# Altium footprint library MWKbasic1.PcbLib: 42 footprints (part 2 of 3)
Each footprint in its own frame and in the unit in brackets; x right, y up, seen from the top. Pads: shape width x height; smd on the part's side, far side on the other; paste and mask are expansions set on the pad; w line width, h text height; cw(c..) or ccw(c..) is an arc to the next point about the centre after c.
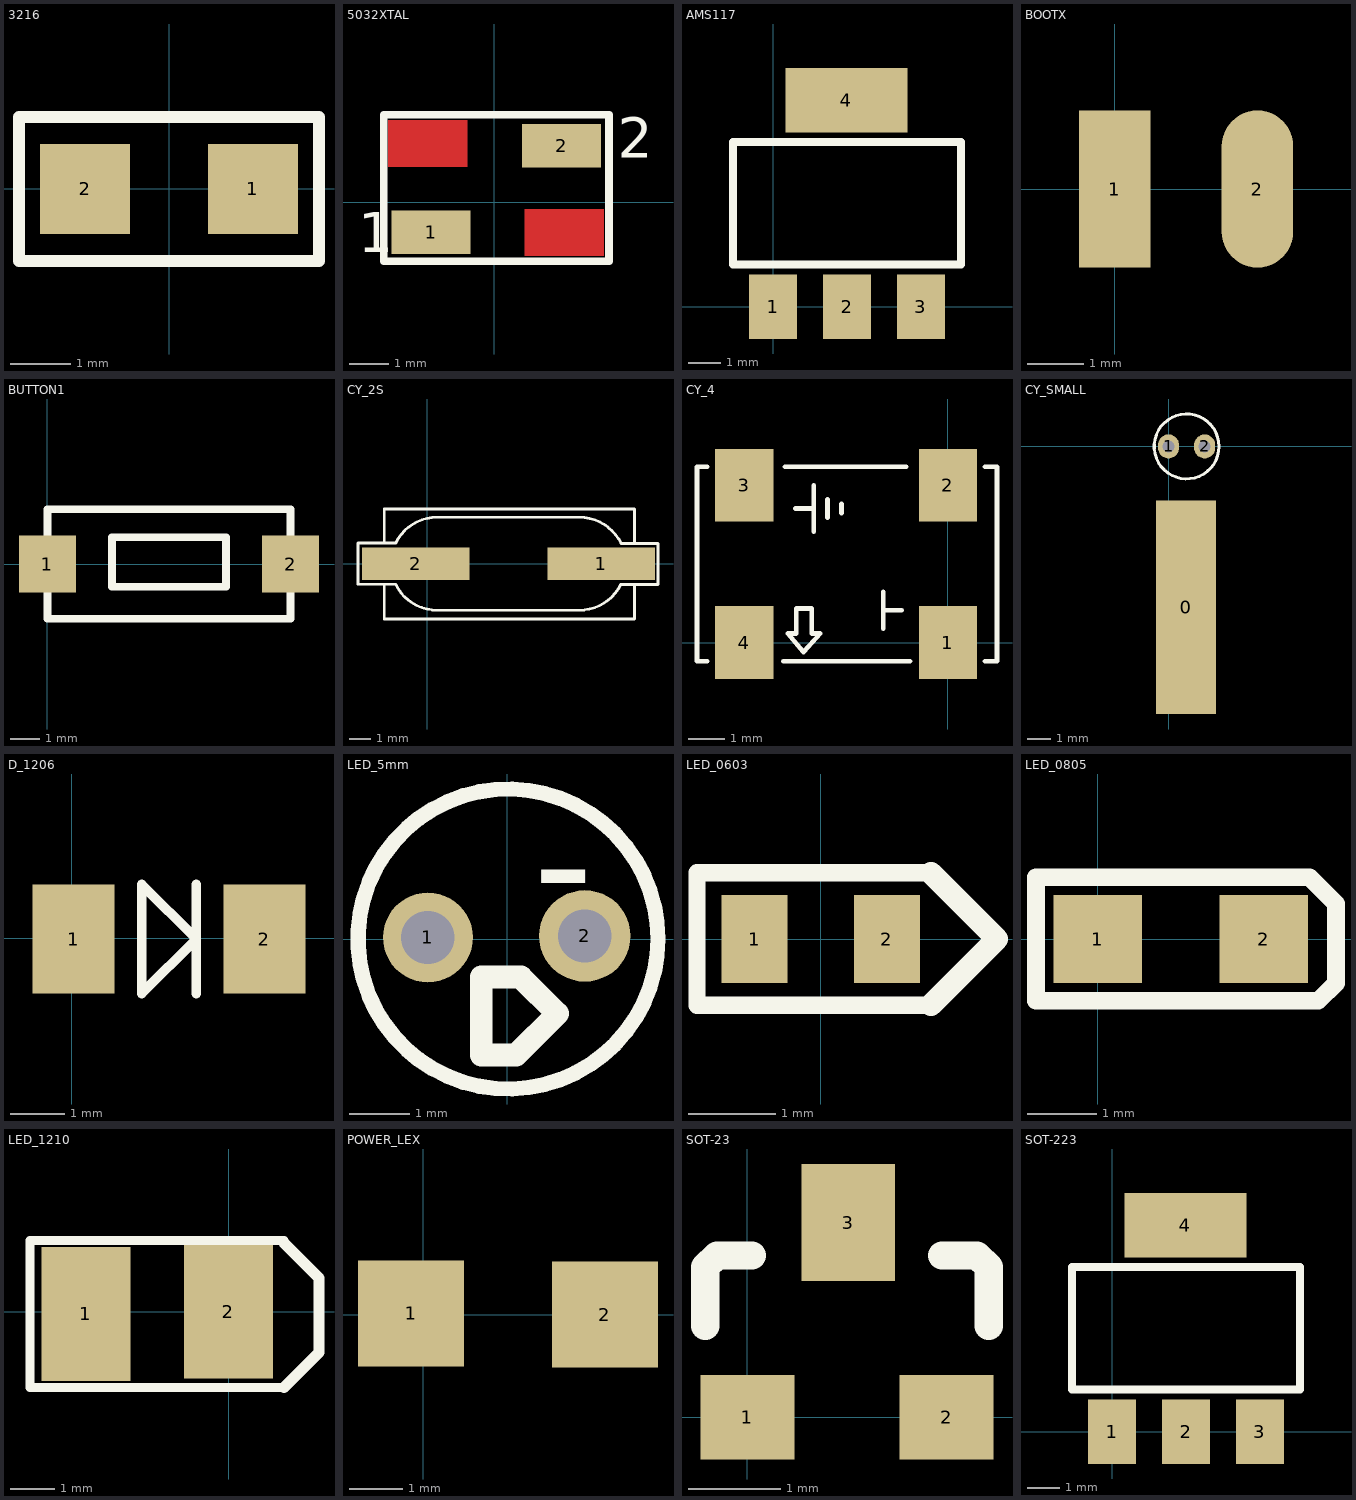
[diagram p1: the footprints below, top view; thin cyan lines are the x and y axes]

## 3216 [mm]
height 1.1
pads (2):
  rect 1.5x1.5 smd: 1(1.397,0) 2(-1.397,0)
Top Overlay:
  lines w0.2: -2.5,-1.2 2.5,-1.2 2.5,1.2 -2.5,1.2 -2.5,-1.2

## 5032XTAL [mm]
pads (2):
  rect 2x1.1 smd: 1(-1.6,-0.762) 2(1.702,1.422)
Top Layer:
  rectangle: 0.762,-1.372 2.769,-0.178
  rectangle: -2.692,0.889 -0.686,2.083
Top Overlay:
  lines w0.2: -2.803,-1.499 2.897,-1.499 2.897,2.21 -2.803,2.21 -2.803,0.879 -2.803,-0.721 -2.803,-1.499
  text "2" at 3.124,1.118 h1.02
  text "1" at -3.454,-1.27 h1.02
Top Solder:
  rectangle: 0.762,-1.372 2.769,-0.178
  rectangle: -2.692,0.889 -0.686,2.083

## AMS117 [mil]
pads (4):
  rect 59x79 smd: 1(0,0) 2(90.55,0) 3(181.1,0)
  rect 150x79 smd: 4(89.88,253.54)
Top Overlay:
  lines w10: -49.45,52 -49.45,202 230.55,202 230.55,52 -49.45,52

## BOOTX [mil]
pads (2):
  rect 50x110 smd: 1(0,0)
  oval 50x110 smd: 2(100,0)

## BUTTON1 [mil]
pads (2):
  rect 75x75 smd: 1(0,0) 2(320,0)
Top Overlay:
  lines w10: 0,0 0,72 ; 0,72 80,72 240,72 320,72 320,-72 0,-72 0,72 ; 85,-30 85,35 235,35 235,-30 85,-30

## CY_2S [mm]
height 1.6
pads (2):
  rect 5x1.5 smd: 1(8.077,0) 2(-0.533,0)
Top Overlay:
  lines w0.127: -2.007,-0.955 -2.007,-2.565 9.627,-2.565 9.627,-0.966 ; -2.007,0.966 -2.007,2.54 9.627,2.54 9.627,0.945 ; -3.226,-0.955 -3.226,0.966 -2.667,0.966 -2.564,0.966 -1.474,0.966 cw(c0.457,0) 0.457,2.159 7.061,2.159 cw(c7.061,0) 9.002,0.945 10.185,0.945 10.719,0.945 10.719,-0.966 10.185,-0.966 8.992,-0.966 cw(c7.061,0) 7.061,-2.159 0.457,-2.159 cw(c0.457,0) -1.479,-0.955 -2.564,-0.955 -2.667,-0.955 -3.226,-0.955

## CY_4 [mm]
height 1.6
pads (4):
  rect 1.6x2 smd: 1(0,0) 2(0,4.318) 3(-5.588,4.318) 4(-5.588,0)
Top Overlay:
  lines w0.127: -6.604,-0.508 -6.883,-0.508 -6.883,4.826 -6.604,4.826 ; -4.521,-0.508 -1.041,-0.508 ; -4.47,4.826 -1.143,4.826 ; -4.191,3.683 -3.683,3.683 ; -3.683,3.048 -3.683,4.318 ; -3.302,3.429 -3.302,3.937 ; -2.921,3.556 -2.921,3.81 ; -1.778,0.381 -1.778,1.397 ; -1.778,0.889 -1.27,0.889 ; 1.016,4.826 1.346,4.826 1.346,-0.508 ; 1.346,-0.508 1.016,-0.508 1.346,-0.508 ; -4.394,0.254 -3.962,-0.254 -3.505,0.254 -3.734,0.254 -3.734,0.94 -4.166,0.94 -4.166,0.254 -4.394,0.254

## CY_SMALL [mil]
pads (3):
  rect 100x354.33 smd: 0(29,-267)
  oval 35x40 hole 20: 1(0,0) 2(60,0)
Top Overlay:
  circle w5: c30,0 r53.85

## D_1206 [mm]
height 1.1
pads (2):
  rect 1.5x2 smd: 1(0.031,-0.015) 2(3.531,-0.015)
Top Overlay:
  lines w0.178: 2.281,-1.015 2.281,0.985 ; 1.281,-1.015 2.281,-0.015 1.281,0.985 1.281,-1.015

## LED_5mm [mil]
pads (2):
  round 59 hole 35: 1(-52,1)
  round 60 hole 35: 2(51,2)
Top Overlay:
  circle w10: c0.57,0 r98.43
  lines w15: -17,-76 6,-76 33,-49 9,-25 -17,-25 -17,-76
  text "-" at 17,11 h80

## LED_0603 [mil]
pads (2):
  rect 30x40 smd: 1(-30,0) 2(30,0)
Top Overlay:
  lines w7.87: 50,-30 -56.14,-30 -56.14,30 50,30
  lines w10: 50,-30 80,0 50,30

## LED_0805 [mil]
pads (2):
  rect 50x50 smd: 1(0,0) 2(94,0)
Top Overlay:
  lines w10: -35,-35 -35,35 120,35 135,20 135,-25 125,-35 -35,-35

## LED_1210 [mm]
height 1.1
pads (2):
  rect 2x3 smd: 1(-3.204,-0.048) 2(-0.004,0.002)
Top Overlay:
  lines w0.2: -4.454,-1.698 1.246,-1.698 ; -4.454,-1.648 -4.454,1.552 ; -4.454,1.602 1.246,1.602
  lines w0.254: 1.246,-1.698 2.032,-0.912 2.032,0.762 1.246,1.548

## POWER_LEX [mm]
pads (2):
  rect 2x2 smd: 1(-0.229,0.025) 2(3.429,0)

## SOT-23 [mil]
pads (3):
  rect 40x36 smd: 1(0,0) 2(85,0)
  rect 40x50 smd: 3(43,83)
Top Overlay:
  lines w12: -18,39 -18,64 -13,69 2,69 ; 83,69 98,69 103,64 103,39

## SOT-223 [mil]
pads (4):
  rect 59x79 smd: 1(0,0) 2(90.55,0) 3(181.1,0)
  rect 150x79 smd: 4(89.88,253.54)
Top Overlay:
  lines w10: -49.45,52 230.55,52 230.55,202 -49.45,202 -49.45,52